# Altium footprint library L99LD20Q6TR.PcbLib: 3 footprints
Each footprint in its own frame and in the unit in brackets; x right, y up, seen from the top. Pads: shape width x height; smd on the part's side, far side on the other; paste and mask are expansions set on the pad; w line width, h text height; cw(c..) or ccw(c..) is an arc to the next point about the centre after c.
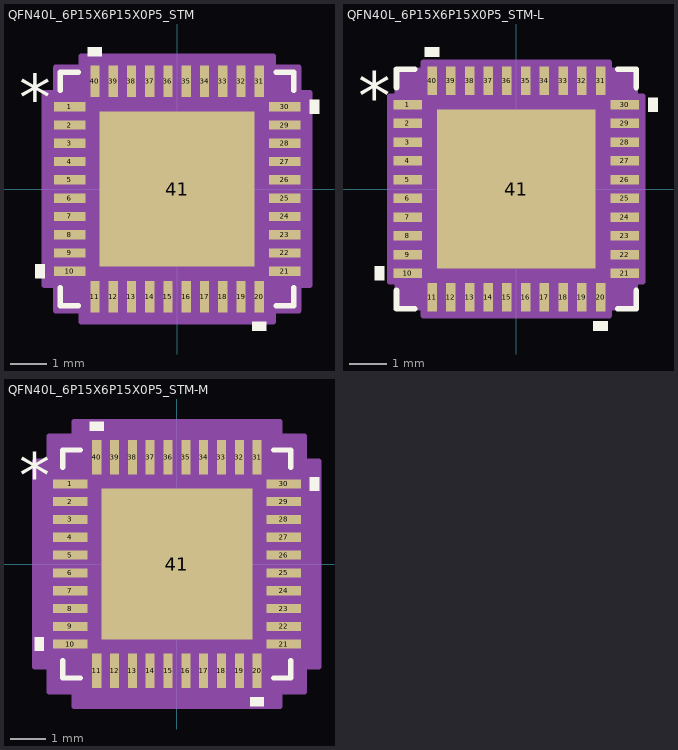
[diagram p0: the footprints below, top view; thin cyan lines are the x and y axes]

## QFN40L_6P15X6P15X0P5_STM [mil]
pads (41):
  rect 34x10 smd paste+0 mask+0: 1(-116,88.61) 2(-116,68.92) 3(-116,49.23) 4(-116,29.54) 5(-116,9.85) 6(-116,-9.85) 7(-116,-29.54) 8(-116,-49.23) 9(-116,-68.92) 10(-116,-88.61) 21(116,-88.61) 22(116,-68.92) 23(116,-49.23) 24(116,-29.54) 25(116,-9.85) 26(116,9.85) 27(116,29.54) 28(116,49.23) 29(116,68.92) 30(116,88.61)
  rect 10x34 smd paste+0 mask+0: 11(-88.61,-116) 12(-68.92,-116) 13(-49.23,-116) 14(-29.54,-116) 15(-9.85,-116) 16(9.85,-116) 17(29.54,-116) 18(49.23,-116) 19(68.92,-116) 20(88.61,-116) 31(88.61,116) 32(68.92,116) 33(49.23,116) 34(29.54,116) 35(9.85,116) 36(-9.85,116) 37(-29.54,116) 38(-49.23,116) 39(-68.92,116) 40(-88.61,116)
  rect 167x167 smd paste-83 mask+0: 41(0,0)
Top Overlay:
  region: -81.11,143 -96.11,143 -96.11,153 -81.11,153
  region: 143,96.11 153,96.11 153,81.11 143,81.11
  region: 96.11,-143 81.11,-143 81.11,-153 96.11,-153
  region: -143,-81.11 -153,-81.11 -153,-96.11 -143,-96.11
  lines w6: -126,-106.7 -126,-126 -106.7,-126 ; -126,106.7 -126,126 -106.7,126 ; 106.7,-126 126,-126 126,-106.7 ; 106.7,126 126,126 126,106.7
  text "*" at -170.5,73.45 h50
Top Paste:
  region: 79.56,-31.77 31.77,-31.77 31.77,-79.56 79.56,-79.56
  region: 79.56,23.9 31.77,23.9 31.77,-23.9 79.56,-23.9
  region: 79.56,79.56 31.77,79.56 31.77,31.77 79.56,31.77
  region: 23.9,-31.77 -23.9,-31.77 -23.9,-79.56 23.9,-79.56
  region: 23.9,23.9 -23.9,23.9 -23.9,-23.9 23.9,-23.9
  region: 23.9,79.56 -23.9,79.56 -23.9,31.77 23.9,31.77
  region: -31.77,-31.77 -79.56,-31.77 -79.56,-79.56 -31.77,-79.56
  region: -31.77,23.9 -79.56,23.9 -79.56,-23.9 -31.77,-23.9
  region: -31.77,79.56 -79.56,79.56 -79.56,31.77 -31.77,31.77
Mechanical 13:
  lines w1: -121,71 -71,121 ; -121,-121 -121,121 121,121 121,-121 -121,-121 ; -121,-94.61 -121,-82.61 -121,-94.61 ; -121,-74.92 -121,-62.91 -121,-74.92 ; -121,-55.23 -121,-43.23 -121,-55.23 ; -121,-35.53 -121,-23.54 -121,-35.53 ; -121,-15.85 -121,-3.85 -121,-15.85 ; -121,3.85 -121,15.85 -121,3.85 ; -121,23.54 -121,35.53 -121,23.54 ; -121,43.23 -121,55.23 -121,43.23 ; -121,62.91 -121,74.92 -121,62.91 ; -121,82.61 -121,94.61 -121,82.61 ; -94.61,-121 -82.61,-121 -94.61,-121 ; -94.61,121 -82.61,121 -94.61,121 ; -74.92,-121 -62.91,-121 -74.92,-121 ; -74.92,121 -62.91,121 -74.92,121 ; -55.23,-121 -43.23,-121 -55.23,-121 ; -55.23,121 -43.23,121 -55.23,121 ; -35.53,-121 -23.54,-121 -35.53,-121 ; -35.53,121 -23.54,121 -35.53,121 ; -15.85,-121 -3.85,-121 -15.85,-121 ; -15.85,121 -3.85,121 -15.85,121 ; 3.85,-121 15.85,-121 3.85,-121 ; 3.85,121 15.85,121 3.85,121 ; 23.54,-121 35.53,-121 23.54,-121 ; 23.54,121 35.53,121 23.54,121 ; 43.23,-121 55.23,-121 43.23,-121 ; 43.23,121 55.23,121 43.23,121 ; 62.91,-121 74.92,-121 62.91,-121 ; 62.91,121 74.92,121 62.91,121 ; 82.61,-121 94.61,-121 82.61,-121 ; 82.61,121 94.61,121 82.61,121 ; 121,-94.61 121,-82.61 121,-94.61 ; 121,-74.92 121,-62.91 121,-74.92 ; 121,-55.23 121,-43.23 121,-55.23 ; 121,-35.53 121,-23.54 121,-35.53 ; 121,-15.85 121,-3.85 121,-15.85 ; 121,3.85 121,15.85 121,3.85 ; 121,23.54 121,35.53 121,23.54 ; 121,43.23 121,55.23 121,43.23 ; 121,62.91 121,74.92 121,62.91 ; 121,82.61 121,94.61 121,82.61
  text "*" at -111.5,73.45 h50
Mechanical 15:
  region: -103.61,-131 -131,-131 -131,-103.61 -143,-103.61 -143,103.61 -131,103.61 -131,131 -103.61,131 -103.61,143 103.61,143 103.61,131 131,131 131,103.61 143,103.61 143,-103.61 131,-103.61 131,-131 103.61,-131 103.61,-143 -103.61,-143
  lines w6: -143,-103.61 -143,103.61 -131,103.61 -131,131 -103.61,131 -103.61,143 103.61,143 103.61,131 131,131 131,103.61 143,103.61 143,-103.61 131,-103.61 131,-131 103.61,-131 103.61,-143 -103.61,-143 -103.61,-131 -131,-131 -131,-103.61 -143,-103.61
3D body "QFN40L_6P15X6P15X0P5_STM.step": height 41.1, standoff 0, extent -120.98,-120.98 120.98,120.98

## QFN40L_6P15X6P15X0P5_STM-L [mil]
pads (41):
  rect 30x10 smd paste+0 mask+0: 1(-114,88.61) 2(-114,68.92) 3(-114,49.23) 4(-114,29.54) 5(-114,9.85) 6(-114,-9.85) 7(-114,-29.54) 8(-114,-49.23) 9(-114,-68.92) 10(-114,-88.61) 21(114,-88.61) 22(114,-68.92) 23(114,-49.23) 24(114,-29.54) 25(114,-9.85) 26(114,9.85) 27(114,29.54) 28(114,49.23) 29(114,68.92) 30(114,88.61)
  rect 10x30 smd paste+0 mask+0: 11(-88.61,-114) 12(-68.92,-114) 13(-49.23,-114) 14(-29.54,-114) 15(-9.85,-114) 16(9.85,-114) 17(29.54,-114) 18(49.23,-114) 19(68.92,-114) 20(88.61,-114) 31(88.61,114) 32(68.92,114) 33(49.23,114) 34(29.54,114) 35(9.85,114) 36(-9.85,114) 37(-29.54,114) 38(-49.23,114) 39(-68.92,114) 40(-88.61,114)
  rect 167x167 smd paste-83 mask+0: 41(0,0)
Top Overlay:
  region: -81.11,139 -96.11,139 -96.11,149 -81.11,149
  region: 139,96.11 149,96.11 149,81.11 139,81.11
  region: 96.11,-139 81.11,-139 81.11,-149 96.11,-149
  region: -139,-81.11 -149,-81.11 -149,-96.11 -139,-96.11
  lines w6: -126,-106.7 -126,-126 -106.7,-126 ; -126,106.7 -126,126 -106.7,126 ; 106.7,-126 126,-126 126,-106.7 ; 106.7,126 126,126 126,106.7
  text "*" at -166.5,73.45 h50
Top Paste:
  region: 79.56,-31.77 31.77,-31.77 31.77,-79.56 79.56,-79.56
  region: 79.56,23.9 31.77,23.9 31.77,-23.9 79.56,-23.9
  region: 79.56,79.56 31.77,79.56 31.77,31.77 79.56,31.77
  region: 23.9,-31.77 -23.9,-31.77 -23.9,-79.56 23.9,-79.56
  region: 23.9,23.9 -23.9,23.9 -23.9,-23.9 23.9,-23.9
  region: 23.9,79.56 -23.9,79.56 -23.9,31.77 23.9,31.77
  region: -31.77,-31.77 -79.56,-31.77 -79.56,-79.56 -31.77,-79.56
  region: -31.77,23.9 -79.56,23.9 -79.56,-23.9 -31.77,-23.9
  region: -31.77,79.56 -79.56,79.56 -79.56,31.77 -31.77,31.77
Mechanical 13:
  lines w1: -121,71 -71,121 ; -121,-121 -121,121 121,121 121,-121 -121,-121 ; -121,-94.61 -121,-82.61 -121,-94.61 ; -121,-74.92 -121,-62.91 -121,-74.92 ; -121,-55.23 -121,-43.23 -121,-55.23 ; -121,-35.53 -121,-23.54 -121,-35.53 ; -121,-15.85 -121,-3.85 -121,-15.85 ; -121,3.85 -121,15.85 -121,3.85 ; -121,23.54 -121,35.53 -121,23.54 ; -121,43.23 -121,55.23 -121,43.23 ; -121,62.91 -121,74.92 -121,62.91 ; -121,82.61 -121,94.61 -121,82.61 ; -94.61,-121 -82.61,-121 -94.61,-121 ; -94.61,121 -82.61,121 -94.61,121 ; -74.92,-121 -62.91,-121 -74.92,-121 ; -74.92,121 -62.91,121 -74.92,121 ; -55.23,-121 -43.23,-121 -55.23,-121 ; -55.23,121 -43.23,121 -55.23,121 ; -35.53,-121 -23.54,-121 -35.53,-121 ; -35.53,121 -23.54,121 -35.53,121 ; -15.85,-121 -3.85,-121 -15.85,-121 ; -15.85,121 -3.85,121 -15.85,121 ; 3.85,-121 15.85,-121 3.85,-121 ; 3.85,121 15.85,121 3.85,121 ; 23.54,-121 35.53,-121 23.54,-121 ; 23.54,121 35.53,121 23.54,121 ; 43.23,-121 55.23,-121 43.23,-121 ; 43.23,121 55.23,121 43.23,121 ; 62.91,-121 74.92,-121 62.91,-121 ; 62.91,121 74.92,121 62.91,121 ; 82.61,-121 94.61,-121 82.61,-121 ; 82.61,121 94.61,121 82.61,121 ; 121,-94.61 121,-82.61 121,-94.61 ; 121,-74.92 121,-62.91 121,-74.92 ; 121,-55.23 121,-43.23 121,-55.23 ; 121,-35.53 121,-23.54 121,-35.53 ; 121,-15.85 121,-3.85 121,-15.85 ; 121,3.85 121,15.85 121,3.85 ; 121,23.54 121,35.53 121,23.54 ; 121,43.23 121,55.23 121,43.23 ; 121,62.91 121,74.92 121,62.91 ; 121,82.61 121,94.61 121,82.61
  text "*" at -111.5,73.45 h50
Mechanical 15:
  region: -97.61,-125 -125,-125 -125,-97.61 -133,-97.61 -133,97.61 -125,97.61 -125,125 -97.61,125 -97.61,133 97.61,133 97.61,125 125,125 125,97.61 133,97.61 133,-97.61 125,-97.61 125,-125 97.61,-125 97.61,-133 -97.61,-133
  lines w6: -133,-97.61 -133,97.61 -125,97.61 -125,125 -97.61,125 -97.61,133 97.61,133 97.61,125 125,125 125,97.61 133,97.61 133,-97.61 125,-97.61 125,-125 97.61,-125 97.61,-133 -97.61,-133 -97.61,-125 -125,-125 -125,-97.61 -133,-97.61
3D body "QFN40L_6P15X6P15X0P5_STM.step": height 41.1, standoff 0, extent -120.98,-120.98 120.98,120.98

## QFN40L_6P15X6P15X0P5_STM-M [mil]
pads (41):
  rect 38x10 smd paste+0 mask+0: 1(-118,88.61) 2(-118,68.92) 3(-118,49.23) 4(-118,29.54) 5(-118,9.85) 6(-118,-9.85) 7(-118,-29.54) 8(-118,-49.23) 9(-118,-68.92) 10(-118,-88.61) 21(118,-88.61) 22(118,-68.92) 23(118,-49.23) 24(118,-29.54) 25(118,-9.85) 26(118,9.85) 27(118,29.54) 28(118,49.23) 29(118,68.92) 30(118,88.61)
  rect 10x38 smd paste+0 mask+0: 11(-88.61,-118) 12(-68.92,-118) 13(-49.23,-118) 14(-29.54,-118) 15(-9.85,-118) 16(9.85,-118) 17(29.54,-118) 18(49.23,-118) 19(68.92,-118) 20(88.61,-118) 31(88.61,118) 32(68.92,118) 33(49.23,118) 34(29.54,118) 35(9.85,118) 36(-9.85,118) 37(-29.54,118) 38(-49.23,118) 39(-68.92,118) 40(-88.61,118)
  rect 167x167 smd paste-83 mask+0: 41(0,0)
Top Overlay:
  region: -81.11,147 -96.11,147 -96.11,157 -81.11,157
  region: 147,96.11 157,96.11 157,81.11 147,81.11
  region: 96.11,-147 81.11,-147 81.11,-157 96.11,-157
  region: -147,-81.11 -157,-81.11 -157,-96.11 -147,-96.11
  lines w6: -126,-106.7 -126,-126 -106.7,-126 ; -126,106.7 -126,126 -106.7,126 ; 106.7,-126 126,-126 126,-106.7 ; 106.7,126 126,126 126,106.7
  text "*" at -174.5,73.45 h50
Top Paste:
  region: 79.56,-31.77 31.77,-31.77 31.77,-79.56 79.56,-79.56
  region: 79.56,23.9 31.77,23.9 31.77,-23.9 79.56,-23.9
  region: 79.56,79.56 31.77,79.56 31.77,31.77 79.56,31.77
  region: 23.9,-31.77 -23.9,-31.77 -23.9,-79.56 23.9,-79.56
  region: 23.9,23.9 -23.9,23.9 -23.9,-23.9 23.9,-23.9
  region: 23.9,79.56 -23.9,79.56 -23.9,31.77 23.9,31.77
  region: -31.77,-31.77 -79.56,-31.77 -79.56,-79.56 -31.77,-79.56
  region: -31.77,23.9 -79.56,23.9 -79.56,-23.9 -31.77,-23.9
  region: -31.77,79.56 -79.56,79.56 -79.56,31.77 -31.77,31.77
Mechanical 13:
  lines w1: -121,71 -71,121 ; -121,-121 -121,121 121,121 121,-121 -121,-121 ; -121,-94.61 -121,-82.61 -121,-94.61 ; -121,-74.92 -121,-62.91 -121,-74.92 ; -121,-55.23 -121,-43.23 -121,-55.23 ; -121,-35.53 -121,-23.54 -121,-35.53 ; -121,-15.85 -121,-3.85 -121,-15.85 ; -121,3.85 -121,15.85 -121,3.85 ; -121,23.54 -121,35.53 -121,23.54 ; -121,43.23 -121,55.23 -121,43.23 ; -121,62.91 -121,74.92 -121,62.91 ; -121,82.61 -121,94.61 -121,82.61 ; -94.61,-121 -82.61,-121 -94.61,-121 ; -94.61,121 -82.61,121 -94.61,121 ; -74.92,-121 -62.91,-121 -74.92,-121 ; -74.92,121 -62.91,121 -74.92,121 ; -55.23,-121 -43.23,-121 -55.23,-121 ; -55.23,121 -43.23,121 -55.23,121 ; -35.53,-121 -23.54,-121 -35.53,-121 ; -35.53,121 -23.54,121 -35.53,121 ; -15.85,-121 -3.85,-121 -15.85,-121 ; -15.85,121 -3.85,121 -15.85,121 ; 3.85,-121 15.85,-121 3.85,-121 ; 3.85,121 15.85,121 3.85,121 ; 23.54,-121 35.53,-121 23.54,-121 ; 23.54,121 35.53,121 23.54,121 ; 43.23,-121 55.23,-121 43.23,-121 ; 43.23,121 55.23,121 43.23,121 ; 62.91,-121 74.92,-121 62.91,-121 ; 62.91,121 74.92,121 62.91,121 ; 82.61,-121 94.61,-121 82.61,-121 ; 82.61,121 94.61,121 82.61,121 ; 121,-94.61 121,-82.61 121,-94.61 ; 121,-74.92 121,-62.91 121,-74.92 ; 121,-55.23 121,-43.23 121,-55.23 ; 121,-35.53 121,-23.54 121,-35.53 ; 121,-15.85 121,-3.85 121,-15.85 ; 121,3.85 121,15.85 121,3.85 ; 121,23.54 121,35.53 121,23.54 ; 121,43.23 121,55.23 121,43.23 ; 121,62.91 121,74.92 121,62.91 ; 121,82.61 121,94.61 121,82.61
  text "*" at -111.5,73.45 h50
Mechanical 15:
  region: -113.61,-141 -141,-141 -141,-113.61 -157,-113.61 -157,113.61 -141,113.61 -141,141 -113.61,141 -113.61,157 113.61,157 113.61,141 141,141 141,113.61 157,113.61 157,-113.61 141,-113.61 141,-141 113.61,-141 113.61,-157 -113.61,-157
  lines w6: -157,-113.61 -157,113.61 -141,113.61 -141,141 -113.61,141 -113.61,157 113.61,157 113.61,141 141,141 141,113.61 157,113.61 157,-113.61 141,-113.61 141,-141 113.61,-141 113.61,-157 -113.61,-157 -113.61,-141 -141,-141 -141,-113.61 -157,-113.61
3D body "QFN40L_6P15X6P15X0P5_STM.step": height 41.1, standoff 0, extent -120.98,-120.98 120.98,120.98